# Altium schematic symbol library TPS61088RHLR.Schlib: 1 symbol
Pins are listed as number, name and electrical type; pins without a type are passive.

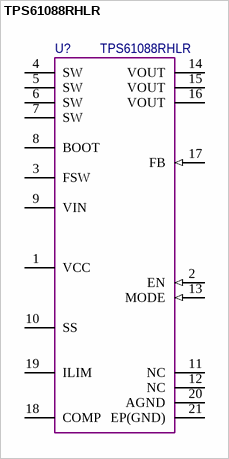
[diagram p0: symbol TPS61088RHLR]

## TPS61088RHLR
designator U?
TPS61088 10-A Fully-Integrated Synchronous Boost Converter
pins: 1 VCC, 2 EN (in), 3 FSW, 4 SW, 5 SW, 6 SW, 7 SW, 8 BOOT, 9 VIN (power), 10 SS, 11 NC, 12 NC, 13 MODE (in), 14 VOUT (power), 15 VOUT (power), 16 VOUT (power), 17 FB (in), 18 COMP, 19 ILIM, 20 AGND (power), 21 EP(GND) (power)